# EAGLE library part AD5292 (library Particulates)
256-/1024-Position, Digital Potentiometer
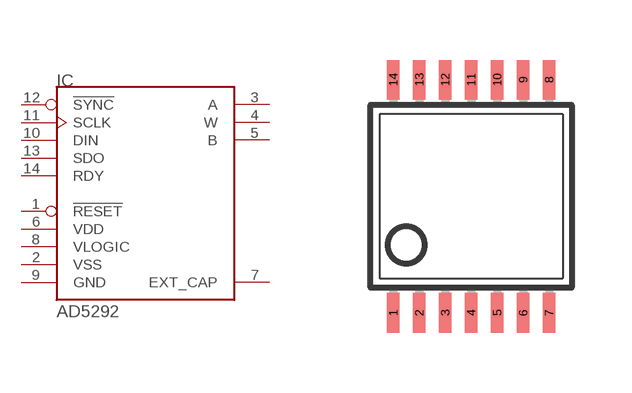
[diagram p1: symbol with the pads of TSSOP14; footprint TSSOP14]

Designator prefix IC

## AD5292TSSOP14  [TSSOP14]
1  !RESET!  pwr
2  VSS  pwr
3  A
4  W
5  B
6  VDD  pwr
7  EXT_CAP  in
8  VLOGIC  pwr
9  GND  pwr
10  DIN
11  SCLK
12  !SYNC!
13  SDO
14  RDY

## Footprint TSSOP14 (pad centres in mm)
Thin Shrink Small Outline Plastic 14 MAX3223-MAX3243.pdf
smd 0.305 x 0.991: 1 -1.95,-2.918; 2 -1.3,-2.918; 3 -0.65,-2.918; 4 0,-2.918; 5 0.65,-2.918; 6 1.3,-2.918; 7 1.95,-2.918; 8 1.95,2.918; 9 1.3,2.918; 10 0.65,2.918; 11 0,2.918; 12 -0.65,2.918; 13 -1.3,2.918; 14 -1.95,2.918